# Altium footprint library TIDA-00080_AMC13x6.PcbLib: 26 footprints (part 1 of 2)
Each footprint in its own frame and in the unit in brackets; x right, y up, seen from the top. Pads: shape width x height; smd on the part's side, far side on the other; paste and mask are expansions set on the pad; w line width, h text height; cw(c..) or ccw(c..) is an arc to the next point about the centre after c.
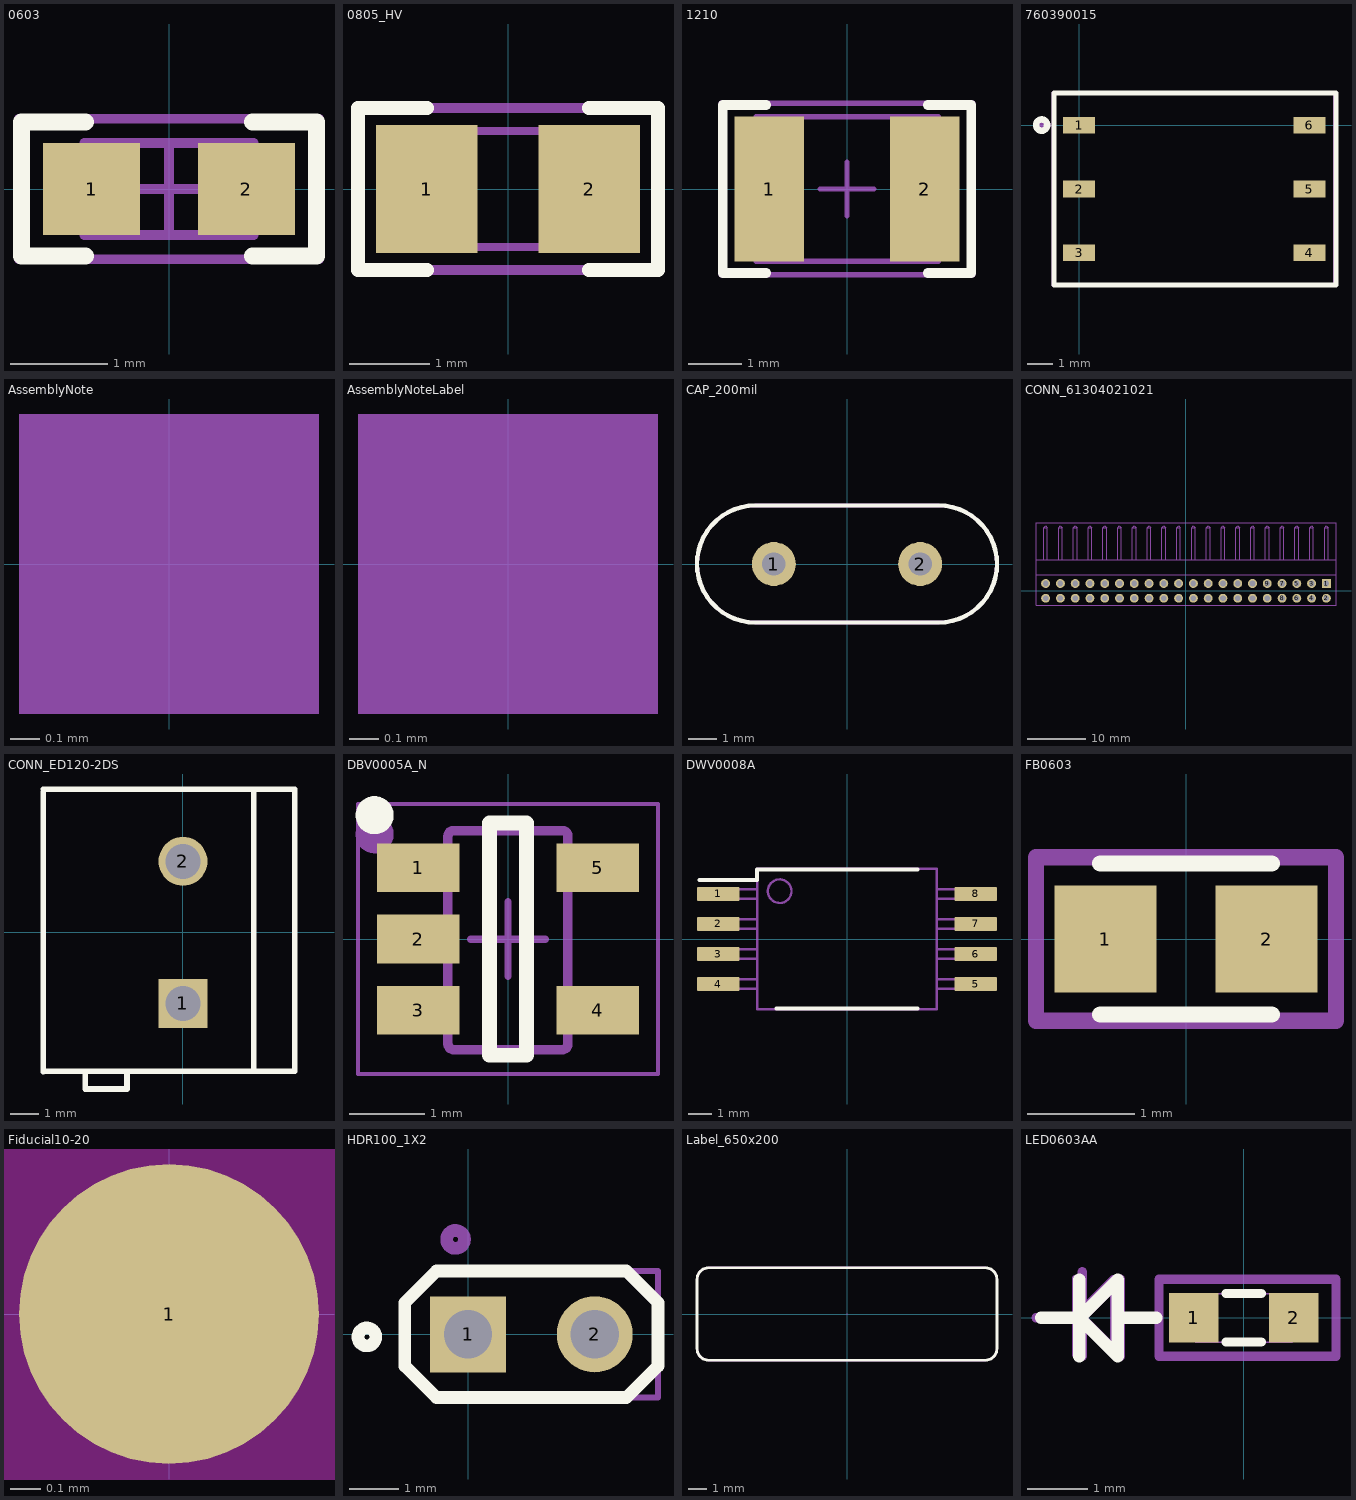
[diagram p0: the footprints below, top view; thin cyan lines are the x and y axes]

## 0603 [mm] "0603 from SM-752 data"
height 0.85
pads (2):
  rect 1x0.95 smd: 1(-0.8,0) 2(0.8,0)
Top Overlay:
  lines w0.178: -0.864,-0.691 -1.524,-0.691 -1.524,0.693 -0.864,0.693 ; 0.864,-0.691 1.524,-0.691 1.524,0.693 0.864,0.693
Mechanical 5:
  lines w0.1: -1.55,-0.725 -1.55,0.725 1.55,0.725 1.55,-0.725 -1.55,-0.725
  text ".Designator" at 0.881,0.412 h0.64
Mechanical 13:
  lines w0.1: -0.55,-0.475 -0.55,0.475 ; 0.55,-0.475 0.55,0.475 ; -0.875,-0.475 0.875,-0.475 0.875,0.475 -0.875,0.475 -0.875,-0.475
Mechanical 15:
  lines w0.1: -0.475,0 0.475,0 ; 0,-0.475 0,0.475 ; -1.55,-0.725 1.55,-0.725 1.55,0.725 -1.55,0.725 -1.55,-0.725
3D body: height 0.85, standoff 0, extent -0.874,-0.474 -0.551,0.474
3D body: height 0.85, standoff 0, extent -0.549,-0.474 0.549,0.474
3D body: height 0.85, standoff 0, extent 0.551,-0.474 0.874,0.474

## 0805_HV [mil] "0805 with 30mil clearance between pads"
height 43.31
pads (2):
  rect 50x63 smd: 1(-40,0) 2(40,0)
Top Overlay:
  lines w7: -40,-40 -74,-40 -74,0 -74,40 -40,40 ; 40,-40 74,-40 74,0 74,40 40,40
Mechanical 5:
  lines w5: -74,-40 -74,40 74,40 74,-40 -74,-40
  text ".Designator" at -25.11,-12.92 h25
Mechanical 13:
  lines w3.94: -25.59,-28.54 -25.59,28.54 ; 25.59,-28.54 25.59,28.54 ; -43.31,-28.54 43.31,-28.54 43.31,28.54 -43.31,28.54 -43.31,-28.54
3D body: height 43.31, standoff 0, extent -43.29,-28.52 -25.61,28.52
3D body: height 43.31, standoff 0, extent -25.57,-28.52 25.57,28.52
3D body: height 43.31, standoff 0, extent 25.61,-28.52 43.29,28.52

## 1210 [mm] "1210 from SM-752 data"
height 1.35
pads (2):
  rect 1.3x2.7 smd: 1(-1.45,0) 2(1.45,0)
Top Overlay:
  lines w0.178: -1.511,-1.568 -2.316,-1.568 -2.316,1.568 -1.511,1.568 ; 1.511,-1.568 2.316,-1.568 2.316,1.568 1.511,1.568
Mechanical 5:
  lines w0.1: -1.7,-1.35 -1.7,1.35 1.7,1.35 1.7,-1.35 -1.7,-1.35
  text ".Designator" at -1.03,-0.443 h0.64
Mechanical 13:
  lines w0.1: -1.2,-1.35 -1.2,1.35 ; 1.2,-1.35 1.2,1.35 ; -1.7,-1.35 1.7,-1.35 1.7,1.35 -1.7,1.35 -1.7,-1.35
Mechanical 15:
  lines w0.1: -0.5,0 0.5,0 ; 0,-0.5 0,0.5 ; -2.35,-1.6 2.35,-1.6 2.35,1.6 -2.35,1.6 -2.35,-1.6
3D body: height 1.35, standoff 0, extent 1.201,-1.349 1.699,1.349
3D body: height 1.35, standoff 0, extent -1.199,-1.349 1.199,1.349
3D body: height 1.35, standoff 0, extent -1.699,-1.349 -1.201,1.349

## 760390015 [mm]
pads (6):
  rect 1.27x0.66 smd: 1(0,0) 2(0,-2.54) 3(0,-5.08) 4(9.14,-5.08) 5(9.14,-2.54) 6(9.14,0)
Top Overlay:
  circle w0.254: c-1.494,0 r0.224
  lines w0.2: -1,-6.35 -1,1.27 10.2,1.27 10.2,-6.35 -1,-6.35
Mechanical 5:
  circle w0.254: c-1.397,0 r0.127
  lines w0.152: -1.016,-6.35 10.16,-6.35 10.16,1.27 -1.016,1.27 -1.016,-6.35
  text ".designator" at 4.007,0.303 h0.64
3D body: height 4.2, standoff 0.2, extent -1,-6.4 10.2,1.2

## AssemblyNote [mil] "Assembly Note"
Mechanical 5:
  rectangle: -20,-20 20,20
  text ".Designator" at -165,-20 h30
  text ".Comment" at 45,-20 h30

## AssemblyNoteLabel [mil] "Assembly Note for PCB Labels"
Mechanical 5:
  rectangle: -20,-20 20,20
  text ".Designator" at -165,-20 h30
  text "Install label in silkscreened box after final wash.  Text shall be 8 pt font.  Text shall be per the Label Table in the PDF schematic." at 45,-20 h30

## CAP_200mil [mil]
pads (2):
  round 60 hole 32 mask+5: 1(-100,0) 2(100,0)
Top Overlay:
  lines w6: -125,-80 cw(c-125,0) -125,80 125,80 cw(c125,0) 125,-80 -125,-80
Mechanical 5:
  lines w5: -125,-80 cw(c-125,0) -125,80 125,80 cw(c125,0) 125,-80 -125,-80
  text ".Designator" at -39,-17 h25

## CONN_61304021021 [mil]
pads (40):
  rect 60x60 hole 38: 1(952,50)
  round 60 hole 38: 2(952,-50) 3(852,50) 4(852,-50) 5(752,50) 6(752,-50) 7(652,50) 8(652,-50) 9(552,50) 10(552,-50) 11(452,50) 12(452,-50) 13(352,50) 14(352,-50) 15(252,50) 16(252,-50) 17(152,50) 18(152,-50) 19(52,50) 20(52,-50) 21(-48,50) 22(-48,-50) 23(-148,50) 24(-148,-50) 25(-248,50) 26(-248,-50) 27(-348,50) 28(-348,-50) 29(-448,50) 30(-448,-50) 31(-548,50) 32(-548,-50) 33(-648,50) 34(-648,-50) 35(-748,50) 36(-748,-50) 37(-848,50) 38(-848,-50) 39(-948,50) 40(-948,-50)
Mechanical 5:
  lines w5: -1013,109.5 1017,109.5 ; -1013,209.5 1017,209.5 ; -1013,-95.5 1017,-95.5 1017,459.5 -1013,459.5 -1013,-95.5
  text ".Designator" at 42.01,13.69 h25
Mechanical 16:
  lines w1: -960.5,210 -960.5,427.5 ; -935.5,210 -935.5,427.5 ; -860.5,210 -860.5,427.5 ; -835.5,210 -835.5,427.5 ; -760.5,210 -760.5,427.5 ; -735.5,210 -735.5,427.5 ; -660.5,210 -660.5,427.5 ; -635.5,210 -635.5,427.5 ; -560.5,210 -560.5,427.5 ; -535.5,210 -535.5,427.5 ; -460.5,210 -460.5,427.5 ; -435.5,210 -435.5,427.5 ; -360.5,210 -360.5,427.5 ; -335.5,210 -335.5,427.5 ; -260.5,210 -260.5,427.5 ; -235.5,210 -235.5,427.5 ; -160.5,210 -160.5,427.5 ; -135.5,210 -135.5,427.5 ; -60.5,210 -60.5,427.5 ; -35.5,210 -35.5,427.5 ; 39.5,210 39.5,427.5 ; 64.5,210 64.5,427.5 ; 139.5,210 139.5,427.5 ; 164.5,210 164.5,427.5 ; 239.5,210 239.5,427.5 ; 264.5,210 264.5,427.5 ; 339.5,210 339.5,427.5 ; 364.5,210 364.5,427.5 ; 439.5,210 439.5,427.5 ; 464.5,210 464.5,427.5 ; 539.5,210 539.5,427.5 ; 564.5,210 564.5,427.5 ; 639.5,210 639.5,427.5 ; 664.5,210 664.5,427.5 ; 739.5,210 739.5,427.5 ; 764.5,210 764.5,427.5 ; 839.5,210 839.5,427.5 ; 864.5,210 864.5,427.5 ; 939.5,210 939.5,427.5 ; 964.5,210 964.5,427.5 ; -960.5,427.5 -948,440 -935.5,427.5 ; -960.5,427.5 -935.5,427.5 ; -860.5,427.5 -835.5,427.5 ; -860.5,427.5 -848,440 -835.5,427.5 ; -760.5,427.5 -748,440 -735.5,427.5 ; -760.5,427.5 -735.5,427.5 ; -660.5,427.5 -648,440 -635.5,427.5 ; -660.5,427.5 -635.5,427.5 ; -560.5,427.5 -548,440 -535.5,427.5 ; -560.5,427.5 -535.5,427.5 ; -460.5,427.5 -435.5,427.5 ; -460.5,427.5 -448,440 -435.5,427.5 ; -360.5,427.5 -348,440 -335.5,427.5 ; -360.5,427.5 -335.5,427.5 ; -260.5,427.5 -248,440 -235.5,427.5 ; -260.5,427.5 -235.5,427.5 ; -160.5,427.5 -148,440 -135.5,427.5 ; -160.5,427.5 -135.5,427.5 ; -60.5,427.5 -48,440 -35.5,427.5 ; -60.5,427.5 -35.5,427.5 ; 39.5,427.5 64.5,427.5 ; 39.5,427.5 52,440 64.5,427.5 ; 139.5,427.5 164.5,427.5 ; 139.5,427.5 152,440 164.5,427.5 ; 239.5,427.5 264.5,427.5 ; 239.5,427.5 252,440 264.5,427.5 ; 339.5,427.5 352,440 364.5,427.5 ; 339.5,427.5 364.5,427.5 ; 439.5,427.5 452,440 464.5,427.5 ; 439.5,427.5 464.5,427.5 ; 539.5,427.5 552,440 564.5,427.5 ; 539.5,427.5 564.5,427.5 ; 639.5,427.5 652,440 664.5,427.5 ; 639.5,427.5 664.5,427.5 ; 739.5,427.5 752,440 764.5,427.5 ; 739.5,427.5 764.5,427.5 ; 839.5,427.5 852,440 864.5,427.5 ; 839.5,427.5 864.5,427.5 ; 939.5,427.5 952,440 964.5,427.5 ; 939.5,427.5 964.5,427.5

## CONN_ED120-2DS [mm] "ONSHORE"
height 13
pads (2):
  rect 1.75x1.75 hole 1.25: 1(0,-2.54)
  round 1.75 hole 1.25: 2(0,2.54)
Top Overlay:
  lines w0.2: -5,-4.985 -5,5.015 ; -5,-4.96 4,-4.96 ; -5,5.115 4,5.115 4,-4.885 ; -3.5,-4.96 -3.5,-5.6 -2,-5.6 -2,-4.96 ; 2.525,-4.95 2.525,5.05
Mechanical 5:
  lines w0.1: -5,-4.96 4,-4.96 ; -5,-4.885 -5,5.115 4,5.115 4,-4.885 ; -3.5,-4.96 -3.5,-5.6 -2,-5.6 -2,-4.96 ; 2.525,-4.875 2.525,5.125
  text ".Designator" at -1.27,1.118 h0.64
3D body: height 13, standoff 0, extent -5,-4.985 4,5.115
3D body: height 13.1, standoff -2.5, extent -0.496,-3.039 0.5,-2.041
3D body: height 13.1, standoff -2.5, extent -0.496,2.041 0.5,3.039
3D body: height 5.7, standoff 4.3, extent -0.85,1.846 4.15,3.24
3D body: height 5.7, standoff 4.3, extent -0.875,-3.204 4.125,-1.81
3D body: height 13, standoff 0, extent -3.5,-5.6 -2,-4.925

## DBV0005A_N [mm] "SOT23, 5-Leads, Body 2.9x1.6mm, Pitch 0.95mm, Lead Span 2.8mm, IPC Medium Density"
height 1.45
pads (5):
  rect 1.1x0.65 smd: 1(-1.2,0.95) 2(-1.2,0) 3(-1.2,-0.95) 4(1.2,-0.95) 5(1.2,0.95)
Top Overlay:
  circle w0.254: c-1.778,1.651 r0.127
  lines w0.2: -0.25,-1.55 0.25,-1.55 0.25,1.55 -0.25,1.55 -0.25,-1.55
Mechanical 5:
  circle w0.254: c-1.778,1.397 r0.127
  lines w0.127: -0.801,1.371 cw(c-0.725,1.37) -0.725,1.446 ; -0.801,1.37 -0.801,-1.399 -0.801,-1.4 ccw(c-0.725,-1.399) -0.725,-1.475 ; -0.801,1.37 -0.801,1.371 ; -0.725,-1.475 -0.725,-1.475 ; -0.725,-1.475 0.723,-1.475 0.724,-1.475 ccw(c0.723,-1.399) 0.799,-1.4 0.799,-1.399 0.799,1.37 ; -0.725,1.446 0.723,1.446 0.724,1.446 cw(c0.723,1.37) 0.799,1.371 ; -0.725,1.446 -0.725,1.446 ; 0.799,1.37 0.799,1.371 ; -1.423,-1.167 -1.199,-1.167 -1.105,-1.167 -1.088,-1.167 -0.835,-1.167 -0.801,-1.167 -0.801,-0.767 -0.835,-0.767 -1.088,-0.767 -1.105,-0.767 -1.199,-0.767 -1.423,-0.767 -1.423,-1.167 ; -1.423,-0.215 -1.199,-0.215 -1.105,-0.215 -1.088,-0.215 -0.835,-0.215 -0.801,-0.215 -0.801,0.186 -0.835,0.186 -1.088,0.186 -1.105,0.186 -1.199,0.186 -1.423,0.186 -1.423,-0.215 ; -1.423,0.738 -1.199,0.738 -1.105,0.738 -1.088,0.738 -0.835,0.738 -0.801,0.738 -0.801,1.138 -0.835,1.138 -1.088,1.138 -1.105,1.138 -1.199,1.138 -1.423,1.138 -1.423,0.738 ; 0.799,-1.167 0.799,-0.767 0.834,-0.767 1.087,-0.767 1.103,-0.767 1.198,-0.767 1.422,-0.767 1.422,-1.167 1.198,-1.167 1.103,-1.167 1.087,-1.167 0.834,-1.167 0.799,-1.167 ; 0.799,0.738 0.799,1.138 0.834,1.138 1.087,1.138 1.103,1.138 1.198,1.138 1.422,1.138 1.422,0.738 1.198,0.738 1.103,0.738 1.087,0.738 0.834,0.738 0.799,0.738
  text ".Designator" at 0.364,-1.001 h0.64
Mechanical 15:
  lines w0.05: -2,-1.8 -2,1.8 2,1.8 2,-1.8 -2,-1.8
  lines w0.1: -0.5,0 0.5,0 ; 0,-0.5 0,0.5
3D body "DBV0005AaksMF05A.stp": height 1.08, standoff -0.01, extent -1.422,-1.461 1.422,1.46

## DWV0008A [mm] "SOIC, 8-Leads, Body 5.95x7.6mm (max), Pitch 1.27mm"
height 2.8
pads (8):
  rrect17% 1.8x0.6 smd: 1(-5.45,1.905) 2(-5.45,0.635) 3(-5.45,-0.635) 4(-5.45,-1.905) 5(5.45,-1.905) 6(5.45,-0.635) 7(5.45,0.635) 8(5.45,1.905)
Top Overlay:
  lines w0.17: -6.25,2.5 -3.8,2.5 -3.8,2.95 2.975,2.95 ; -2.975,-2.95 2.975,-2.95
Mechanical 5:
  circle w0.1: c-2.85,2.025 r0.5
  lines w0.1: -3.805,-2.105 -5.8,-2.105 -5.8,-1.705 -3.805,-1.705 ; -3.805,-0.835 -5.8,-0.835 -5.8,-0.435 -3.805,-0.435 ; -3.805,0.435 -5.8,0.435 -5.8,0.835 -3.805,0.835 ; -3.805,1.705 -5.8,1.705 -5.8,2.105 -3.805,2.105 ; 3.805,-2.105 5.8,-2.105 5.8,-1.705 3.805,-1.705 ; 3.805,-0.835 5.8,-0.835 5.8,-0.435 3.805,-0.435 ; 3.805,0.435 5.8,0.435 5.8,0.835 3.805,0.835 ; 3.805,1.705 5.8,1.705 5.8,2.105 3.805,2.105 ; -3.8,-2.975 -3.8,2.975 3.8,2.975 3.8,-2.975 -3.8,-2.975
  text ".Designator" at 0.062,-0.787 h0.64
3D body "DWV0008A.stp": height 2.67, standoff -0.03, extent -5.768,-2.925 5.768,2.925

## FB0603 [mm]
height 0.95
pads (2):
  rect 0.95x1 smd: 1(-0.75,0) 2(0.75,0)
Top Overlay:
  lines w0.152: -0.8,-0.703 0.8,-0.703 ; -0.8,0.703 0.8,0.703
Mechanical 5:
  lines w0.152: -1.397,-0.762 1.397,-0.762 1.397,0.127 1.397,0.762 -1.397,0.762 -1.397,-0.762
  text ".designator" at -0.88,-0.356 h0.64
Mechanical 15:
  lines w0.025: -0.8,-0.4 -0.8,0.4 ; 0.8,-0.4 0.8,0.4
  lines w0.1: -0.8,-0.4 -0.8,0.4

## Fiducial10-20 [mm]
pads (1):
  round 1 smd paste+0 mask+0.5: 1(0,0)
Top Layer keep-out:
  circle w1.178: c0,0 r0.5

## HDR100_1X2 [mil]
pads (2):
  rect 60x60 hole 38: 1(0,0)
  round 60 hole 38: 2(100,0)
Top Overlay:
  circle w10: c-80,-2.07 r7.07
  lines w10: -50,-25 -50,25 -25,50 125,50 150,25 150,-25 125,-50 -25,-50 -50,-25
Mechanical 5:
  circle w10: c-10,75 r7.07
  lines w5: -50,-25 -25,-50 150,-50 150,50 -25,50 -50,25 -50,-25
  text ".Designator" at 76,11 h25

## Label_650x200 [mil] "Thermal Transfer Label"
height 1
pads (1):
  round 1 on Mech13: 0(0,0)
Top Overlay:
  lines w6: -325,-75 ccw(c-300,-75) -300,-100 300,-100 ccw(c300,-75) 325,-75 325,75 ccw(c300,75) 300,100 -300,100 ccw(c-300,75) -325,75 -325,-75
Mechanical 5:
  lines w5: -325,-75 ccw(c-300,-75) -300,-100 300,-100 ccw(c300,-75) 325,-75 325,75 ccw(c300,75) 300,100 -300,100 ccw(c-300,75) -325,75 -325,-75
  text ".Designator" at 65,25 h25
3D body: height 1, standoff 0, extent -325.02,-100.02 325.02,100.02

## LED0603AA [mil]
height 35.43
pads (2):
  rect 32x32 smd: 1(-32.48,0) 2(32.48,0)
Top Overlay:
  lines w6: -11.42,-15.75 11.42,-15.75 ; -11.42,15.75 11.42,15.75
  lines w8: -131.79,-0.04 -106.79,-0.04 ; -106.79,-25.04 -106.79,24.96 ; -81.79,-0.04 -56.79,-0.04 ; -106.79,-0.04 -81.79,-25.04 -81.79,24.96 -106.79,-0.04
Mechanical 5:
  lines w6: -135,0 -105,0 ; -105,-25 -105,30 ; -80,0 -55,0 ; -105,0 -80,25 -80,-25 -105,0 ; -55,-25 60,-25 60,25 -55,25 -55,-25
  text ".designator" at 25,15 h25
Mechanical 15:
  lines w1: -31.5,-15.75 -31.5,15.75 31.5,15.75 31.5,-15.75 -31.5,-15.75
  lines w3.94: -134.79,0.96 -109.79,0.96 ; -109.79,-24.04 -109.79,25.96 ; -84.79,0.96 -59.79,0.96 ; -109.79,0.96 -84.79,-24.04 -84.79,25.96 -109.79,0.96